# Altium footprint library IC - Other.PcbLib: 10 footprints
Each footprint in its own frame and in the unit in brackets; x right, y up, seen from the top. Pads: shape width x height; smd on the part's side, far side on the other; paste and mask are expansions set on the pad; w line width, h text height; cw(c..) or ccw(c..) is an arc to the next point about the centre after c.
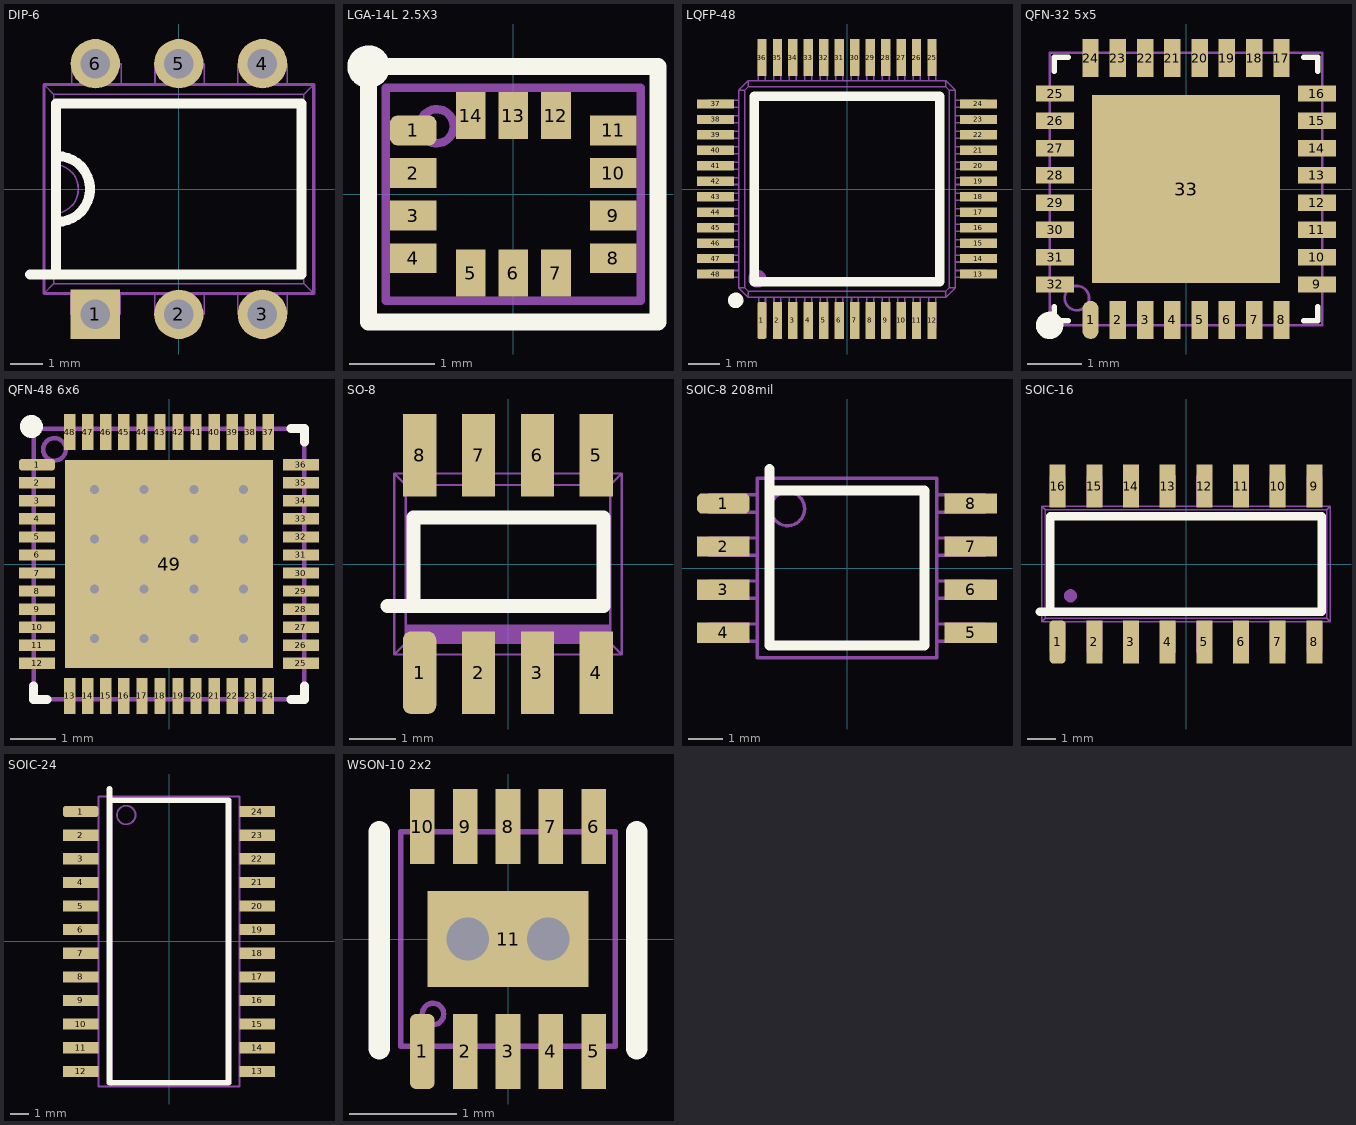
[diagram p0: the footprints below, top view; thin cyan lines are the x and y axes]

## DIP-6 [mm]
pads (6):
  rect 1.5x1.5 hole 0.9 mask+0.076: 1(-2.54,-3.81)
  round 1.5 hole 0.9 mask+0.076: 2(0,-3.81) 3(2.54,-3.81) 4(2.54,3.81) 5(0,3.81) 6(-2.54,3.81)
Top Overlay:
  lines w0.3: -4.53,-2.6 3.725,-2.6 3.725,2.6 -3.725,2.6 ; -3.73,-2.6 -3.73,2.6 ; -3.7,-1 ccw(c-3.7,0) -3.7,1
Mechanical 3:
  lines w0.05: -4.1,-3.175 -3.8,-2.875 3.8,-2.875 ; -4.1,3.175 -3.8,2.875 3.8,2.875 ; -3.805,-2.875 -3.805,-0.75 ccw(c-3.805,0) -3.805,0.75 -3.805,2.875 ; -3.28,-3.2 -3.28,-3.8 -1.78,-3.8 -1.78,-3.2 ; -3.255,3.2 -3.255,3.8 -1.755,3.8 -1.755,3.2 ; -0.73,-3.2 -0.73,-3.8 0.77,-3.8 0.77,-3.2 ; -0.725,3.2 -0.725,3.8 0.775,3.8 0.775,3.2 ; 1.79,-3.2 1.79,-3.8 3.29,-3.8 3.29,-3.2 ; 1.795,3.2 1.795,3.8 3.295,3.8 3.295,3.2 ; 4.1,-3.175 3.8,-2.875 ; 4.1,3.175 3.8,2.875 ; 3.8,-2.875 3.8,2.875
  lines w0.1: -4.1,-3.175 -4.1,3.175 4.1,3.175 4.1,-3.175 -4.1,-3.175
  text ".Designator" at -2.13,1.5 h0.8
  text ".Comment" at -2.13,-2.2 h0.8
3D body "DIP6.step": height 4.31, standoff -3.28, extent -3.98,-4 4.1,4

## LGA-14L 2.5X3 [mm]
pads (14):
  rrect50% 0.55x0.35 smd mask+0.06: 1(-1.175,0.75)
  rect 0.55x0.35 smd mask+0.06: 2(-1.175,0.25) 3(-1.175,-0.25) 4(-1.175,-0.75) 8(1.175,-0.75) 9(1.175,-0.25) 10(1.175,0.25) 11(1.175,0.75)
  rect 0.35x0.55 smd mask+0.06: 5(-0.5,-0.925) 6(0,-0.925) 7(0.5,-0.925) 12(0.5,0.925) 13(0,0.925) 14(-0.5,0.925)
Top Overlay:
  circle w0.25: c-1.7,1.5 r0.125
  lines w0.2: -1.7,-1.5 1.7,-1.5 1.7,1.5 -1.7,1.5 -1.7,-1.5
Mechanical 1:
  circle w0.1: c-0.9,0.8 r0.2
  lines w0.1: -1.5,-1.25 -1.5,1.25 1.5,1.25 1.5,-1.25 -1.5,-1.25
  text ".Comment" at -1.4,-0.5 h1
  text ".Designator" at -1.5,1.5 h1
3D body "LGA-14L 2.5x3.STEP": height 0.86, standoff -0.01, extent -1.5,-1.25 1.5,1.25

## LQFP-48 [mm]
pads (48):
  rrect50% 0.3x1.2 smd: 1(-2.75,-4.25)
  rect 0.3x1.2 smd: 2(-2.25,-4.25) 3(-1.75,-4.25) 4(-1.25,-4.25) 5(-0.75,-4.25) 6(-0.25,-4.25) 7(0.25,-4.25) 8(0.75,-4.25) 9(1.25,-4.25) 10(1.75,-4.25) 11(2.25,-4.25) 12(2.75,-4.25) 25(2.75,4.25) 26(2.25,4.25) 27(1.75,4.25) 28(1.25,4.25) 29(0.75,4.25) 30(0.25,4.25) 31(-0.25,4.25) 32(-0.75,4.25) 33(-1.25,4.25) 34(-1.75,4.25) 35(-2.25,4.25) 36(-2.75,4.25)
  rect 1.2x0.3 smd: 13(4.25,-2.75) 14(4.25,-2.25) 15(4.25,-1.75) 16(4.25,-1.25) 17(4.25,-0.75) 18(4.25,-0.25) 19(4.25,0.25) 20(4.25,0.75) 21(4.25,1.25) 22(4.25,1.75) 23(4.25,2.25) 24(4.25,2.75) 37(-4.25,2.75) 38(-4.25,2.25) 39(-4.25,1.75) 40(-4.25,1.25) 41(-4.25,0.75) 42(-4.25,0.25) 43(-4.25,-0.25) 44(-4.25,-0.75) 45(-4.25,-1.25) 46(-4.25,-1.75) 47(-4.25,-2.25) 48(-4.25,-2.75)
Top Overlay:
  circle w0.25: c-3.6,-3.6 r0.125
  lines w0.3: -3,-3 -3,3 3,3 3,-3 -3,-3
Mechanical 1:
  drawing of 222 lines, arcs and shapes, not listed
  text ".Comment" at -2.8,-2.5 h0.5
  text ".Designator" at -2.8,2 h1
3D body "User Library-LQFP48-2.STEP": height 1.62, standoff -0.01, extent -4.572,-4.572 4.572,4.572

## QFN-32 5x5 [mm]
pads (33):
  oval 0.3x0.7 smd mask+0.076: 1(-1.75,-2.4)
  rect 0.3x0.7 smd mask+0.076: 2(-1.25,-2.4) 3(-0.75,-2.4) 4(-0.25,-2.4) 5(0.25,-2.4) 6(0.75,-2.4) 7(1.25,-2.4) 8(1.75,-2.4) 17(1.75,2.4) 18(1.25,2.4) 19(0.75,2.4) 20(0.25,2.4) 21(-0.25,2.4) 22(-0.75,2.4) 23(-1.25,2.4) 24(-1.75,2.4)
  rect 0.7x0.3 smd mask+0.076: 9(2.4,-1.75) 10(2.4,-1.25) 11(2.4,-0.75) 12(2.4,-0.25) 13(2.4,0.25) 14(2.4,0.75) 15(2.4,1.25) 16(2.4,1.75) 25(-2.4,1.75) 26(-2.4,1.25) 27(-2.4,0.75) 28(-2.4,0.25) 29(-2.4,-0.25) 30(-2.4,-0.75) 31(-2.4,-1.25) 32(-2.4,-1.75)
  rect 3.45x3.45 smd mask+0.076: 33(0,0)
Top Overlay:
  circle w0.25: c-2.5,-2.5 r0.125
  lines w0.1: -2.413,-2.159 -2.413,-2.413 -2.159,-2.413 ; -2.413,2.159 -2.413,2.413 -2.159,2.413 ; 2.159,-2.413 2.413,-2.413 2.413,-2.159 ; 2.159,2.413 2.413,2.413 2.413,2.159
Mechanical 1:
  circle w0.05: c-2,-2 r0.224
  lines w0.05: -2.5,-2.5 -2.5,2.5 2.5,2.5 2.5,-2.5 -2.5,-2.5
  text ".Comment" at -1.75,-1.5 h0.8
  text ".Designator" at -2.3,3 h0.8
3D body "QFN-32 5x5.step": height 0.75, standoff 0, extent -2.51,-2.51 2.51,2.51

## QFN-48 6x6 [mm]
pads (49):
  rrect50% 0.8x0.25 smd: 1(-2.925,2.2)
  rect 0.8x0.25 smd: 2(-2.925,1.8) 3(-2.925,1.4) 4(-2.925,1) 5(-2.925,0.6) 6(-2.925,0.2) 7(-2.925,-0.2) 8(-2.925,-0.6) 9(-2.925,-1) 10(-2.925,-1.4) 11(-2.925,-1.8) 12(-2.925,-2.2) 25(2.925,-2.2) 26(2.925,-1.8) 27(2.925,-1.4) 28(2.925,-1) 29(2.925,-0.6) 30(2.925,-0.2) 31(2.925,0.2) 32(2.925,0.6) 33(2.925,1) 34(2.925,1.4) 35(2.925,1.8) 36(2.925,2.2)
  rect 0.25x0.8 smd: 13(-2.2,-2.925) 14(-1.8,-2.925) 15(-1.4,-2.925) 16(-1,-2.925) 17(-0.6,-2.925) 18(-0.2,-2.925) 19(0.2,-2.925) 20(0.6,-2.925) 21(1,-2.925) 22(1.4,-2.925) 23(1.8,-2.925) 24(2.2,-2.925) 37(2.2,2.925) 38(1.8,2.925) 39(1.4,2.925) 40(1,2.925) 41(0.6,2.925) 42(0.2,2.925) 43(-0.2,2.925) 44(-0.6,2.925) 45(-1,2.925) 46(-1.4,2.925) 47(-1.8,2.925) 48(-2.2,2.925)
  rect 4.6x4.6 smd: 49(0,0)
via 1.65,-1.65 diameter 0.5 hole 0.2
via 0.55,-1.65 diameter 0.5 hole 0.2
via -0.55,-1.65 diameter 0.5 hole 0.2
via -1.65,-1.65 diameter 0.5 hole 0.2
via 1.65,-0.55 diameter 0.5 hole 0.2
via 0.55,-0.55 diameter 0.5 hole 0.2
via -0.55,-0.55 diameter 0.5 hole 0.2
via -1.65,-0.55 diameter 0.5 hole 0.2
via 1.65,0.55 diameter 0.5 hole 0.2
via 0.55,0.55 diameter 0.5 hole 0.2
via -0.55,0.55 diameter 0.5 hole 0.2
via -1.65,0.55 diameter 0.5 hole 0.2
via 1.65,1.65 diameter 0.5 hole 0.2
via 0.55,1.65 diameter 0.5 hole 0.2
via -0.55,1.65 diameter 0.5 hole 0.2
via -1.65,1.65 diameter 0.5 hole 0.2
Top Overlay:
  circle w0.254: c-3.048,3.048 r0.127
  lines w0.2: -3,-2.7 -3,-3 -2.7,-3 ; 2.7,-3 3,-3 3,-2.7 ; 2.7,3 3,3 3,2.7
Mechanical 1:
  circle w0.1: c-2.54,2.54 r0.25
  lines w0.1: -3,-3 3,-3 3,3 -3,3 -3,-3
  text "'.Comment'" at -2.794,-2.794 h0.8
  text "'.Designator'" at 2.54,3.175 h0.8
3D body "User Library-QFN48.step": height 0.85, standoff -0.02, extent -3.034,-3.001 3.006,3.039

## SO-8 [mm]
pads (8):
  rrect50% 0.72x1.78 smd: 1(-1.905,-2.34)
  rect 0.72x1.78 smd: 2(-0.635,-2.34) 3(0.635,-2.34) 4(1.905,-2.34) 5(1.905,2.34) 6(0.635,2.34) 7(-0.635,2.34) 8(-1.905,2.34)
Top Overlay:
  lines w0.3: -2.591,-0.9 -2.032,-0.9 ; -2.032,-0.9 -2.032,1 2.057,1 2.057,-0.9 -2.032,-0.9
Mechanical 1:
  rectangle: -2.2,-1.7 2.2,-1.3
  lines w0.05: -2.075,-1.95 -2.075,-3 -1.725,-3 -1.725,-1.95 ; -2.075,1.975 -2.075,3.025 -1.725,3.025 -1.725,1.975 ; -2.025,-2.75 -1.775,-2.75 ; -2.025,2.75 -1.775,2.75 ; -0.8,1.95 -0.8,3 -0.45,3 -0.45,1.95 ; -0.775,-1.95 -0.775,-3 -0.425,-3 -0.425,-1.95 ; -0.75,2.75 -0.5,2.75 ; -0.725,-2.75 -0.475,-2.75 ; 0.45,1.95 0.45,3 0.8,3 0.8,1.95 ; 0.475,-1.95 0.475,-3 0.825,-3 0.825,-1.95 ; 0.5,2.75 0.75,2.75 ; 0.525,-2.75 0.775,-2.75 ; 1.75,-1.975 1.75,-3.025 2.1,-3.025 2.1,-1.975 ; 1.75,1.95 1.75,3 2.1,3 2.1,1.95 ; 1.8,-2.75 2.05,-2.75 ; 1.8,2.75 2.05,2.75 ; -2.45,-1.95 -2.2,-1.7 ; -2.45,-1.95 2.45,-1.95 ; -2.45,-1.95 -2.45,1.95 ; -2.45,1.95 -2.2,1.7 ; -2.45,1.95 2.45,1.95 ; -2.2,-1.7 2.2,-1.7 ; -2.2,-1.7 -2.2,1.7 ; -2.2,1.7 2.2,1.7 ; 2.2,-1.7 2.2,1.7 ; 2.2,-1.7 2.45,-1.95 ; 2.2,1.7 2.45,1.95 ; 2.45,-1.95 2.45,1.95
  text ".Designator" at -1.854,0.457 h0.6
  text ".Comment" at -1.829,-0.686 h0.6
3D body "SO-8.step": height 1.45, standoff 0, extent -2.438,-2.889 2.464,2.889

## SOIC-8 208mil [mm]
pads (8):
  rrect50% 1.55x0.6 smd: 1(-3.65,1.905)
  rect 1.55x0.6 smd: 2(-3.65,0.635) 3(-3.65,-0.635) 4(-3.65,-1.905) 5(3.65,-1.905) 6(3.65,-0.635) 7(3.65,0.635) 8(3.65,1.905)
Top Overlay:
  lines w0.3: -2.286,2.921 -2.286,2.286 ; -2.286,2.286 -2.286,-2.286 2.286,-2.286 2.286,2.286 -2.286,2.286
Mechanical 1:
  circle w0.1: c-1.75,1.75 r0.5
  lines w0.1: -3.556,-2.159 -3.556,-1.651 ; -3.556,-0.889 -3.556,-0.381 ; -3.556,0.381 -3.556,0.889 ; -3.556,1.651 -3.556,2.159 ; -2.667,-2.159 -4.064,-2.159 -4.064,-1.651 -2.65,-1.651 ; -2.667,-0.889 -4.064,-0.889 -4.064,-0.381 -2.65,-0.381 ; -2.667,0.381 -4.064,0.381 -4.064,0.889 -2.65,0.889 ; -2.667,1.651 -4.064,1.651 -4.064,2.159 -2.65,2.159 ; 2.65,-1.651 4.064,-1.651 4.064,-2.159 2.667,-2.159 ; 2.65,-0.381 4.064,-0.381 4.064,-0.889 2.667,-0.889 ; 2.65,0.889 4.064,0.889 4.064,0.381 2.667,0.381 ; 2.65,2.159 4.064,2.159 4.064,1.651 2.667,1.651 ; 3.556,-2.159 3.556,-1.651 ; 3.556,-0.889 3.556,-0.381 ; 3.556,0.381 3.556,0.889 ; 3.556,1.651 3.556,2.159 ; -2.65,-2.65 -2.65,2.65 2.65,2.65 2.65,-2.65 -2.65,-2.65
  text "'.Designator'" at -1.905,2.921 h1
  text "'.Comment'" at -2.286,-2.286 h1
3D body "SOIC-8b.step": height 1.96, standoff 0, extent -4,-2.65 4,2.65

## SOIC-16 [mm]
pads (16):
  rrect50% 0.55x1.5 smd: 1(-4.445,-2.7)
  rect 0.55x1.5 smd: 2(-3.175,-2.7) 3(-1.905,-2.7) 4(-0.635,-2.7) 5(0.635,-2.7) 6(1.905,-2.7) 7(3.175,-2.7) 8(4.445,-2.7) 9(4.445,2.7) 10(3.175,2.7) 11(1.905,2.7) 12(0.635,2.7) 13(-0.635,2.7) 14(-1.905,2.7) 15(-3.175,2.7) 16(-4.445,2.7)
Top Overlay:
  lines w0.3: -5.055,-1.651 -4.7,-1.651 ; -4.7,-1.651 -4.7,1.651 4.7,1.651 4.7,-1.651 -4.7,-1.651
Mechanical 1:
  circle w0.254: c-4,-1.1 r0.1
  lines w0.05: -4.875,-1.625 4.875,-1.625 ; -4.7,-2 -4.7,-3.05 -4.2,-3.05 -4.2,-2 ; -4.7,2 -4.7,3.05 -4.2,3.05 -4.2,2 ; -4.65,-2.4 -4.25,-2.4 ; -4.65,2.4 -4.25,2.4 ; -3.425,-2 -3.425,-3.05 -2.925,-3.05 -2.925,-2 ; -3.425,2 -3.425,3.05 -2.925,3.05 -2.925,2 ; -3.375,-2.4 -2.975,-2.4 ; -3.375,2.4 -2.975,2.4 ; -2.15,-2 -2.15,-3.05 -1.65,-3.05 -1.65,-2 ; -2.15,2 -2.15,3.05 -1.65,3.05 -1.65,2 ; -2.1,-2.4 -1.7,-2.4 ; -2.1,2.4 -1.7,2.4 ; -0.875,-2 -0.875,-3.05 -0.375,-3.05 -0.375,-2 ; -0.875,2 -0.875,3.05 -0.375,3.05 -0.375,2 ; -0.825,-2.4 -0.425,-2.4 ; -0.825,2.4 -0.425,2.4 ; 0.375,-2 0.375,-3.05 0.875,-3.05 0.875,-2 ; 0.375,2 0.375,3.05 0.875,3.05 0.875,2 ; 0.425,-2.4 0.825,-2.4 ; 0.425,2.4 0.825,2.4 ; 1.65,-2 1.65,-3.05 2.15,-3.05 2.15,-2 ; 1.65,2 1.65,3.05 2.15,3.05 2.15,2 ; 1.7,-2.4 2.1,-2.4 ; 1.7,2.4 2.1,2.4 ; 2.925,-2 2.925,-3.05 3.425,-3.05 3.425,-2 ; 2.925,2 2.925,3.05 3.425,3.05 3.425,2 ; 2.975,-2.4 3.375,-2.4 ; 2.975,2.4 3.375,2.4 ; 4.2,-2 4.2,-3.05 4.7,-3.05 4.7,-2 ; 4.2,2 4.2,3.05 4.7,3.05 4.7,2 ; 4.25,-2.4 4.65,-2.4 ; 4.25,2.4 4.65,2.4 ; -5,-2 -5,2 ; -5,-2 5,-2 ; -5,-2 -4.875,-1.875 ; -5,2 5,2 ; -5,2 -4.875,1.875 ; -4.875,-1.875 4.875,-1.875 ; -4.875,-1.875 -4.875,1.875 ; -4.875,1.875 4.875,1.875 ; 4.875,-1.875 5,-2 ; 4.875,-1.875 4.875,1.875 ; 4.875,-1.875 4.875,1.875 ; 4.875,1.875 5,2 ; 5,-2 5,2
  text ".Comment" at -3.4,-1.3 h0.8
  text ".Designator" at -4.2,0.8 h0.8
3D body "SOIC-16.step": height 1.75, standoff 0, extent -5,-3 5,3

## SOIC-24 [mm] "SOIC-24"
height 2.65
pads (24):
  rrect50% 1.9x0.6 smd: 1(-4.75,6.985)
  rect 1.9x0.6 smd: 2(-4.75,5.715) 3(-4.75,4.445) 4(-4.75,3.175) 5(-4.75,1.905) 6(-4.75,0.635) 7(-4.75,-0.635) 8(-4.75,-1.905) 9(-4.75,-3.175) 10(-4.75,-4.445) 11(-4.75,-5.715) 12(-4.75,-6.985) 13(4.75,-6.985) 14(4.75,-5.715) 15(4.75,-4.445) 16(4.75,-3.175) 17(4.75,-1.905) 18(4.75,-0.635) 19(4.75,0.635) 20(4.75,1.905) 21(4.75,3.175) 22(4.75,4.445) 23(4.75,5.715) 24(4.75,6.985)
Top Overlay:
  lines w0.3: -3.2,8.2 -3.2,7.6 ; -3.2,7.6 -3.2,-7.6 3.2,-7.6 3.2,7.6 -3.2,7.6
Mechanical 1:
  circle w0.1: c-2.3,6.8 r0.5
  lines w0.1: -4.5,-7.07 -4.5,-6.87 ; -4.5,-5.8 -4.5,-5.6 ; -4.5,-4.53 -4.5,-4.33 ; -4.5,-3.26 -4.5,-3.06 ; -4.5,-1.99 -4.5,-1.79 ; -4.5,-0.72 -4.5,-0.52 ; -4.5,0.55 -4.5,0.75 ; -4.5,1.82 -4.5,2.02 ; -4.5,3.09 -4.5,3.29 ; -4.5,4.36 -4.5,4.56 ; -4.5,5.63 -4.5,5.83 ; -4.5,6.9 -4.5,7.1 ; -3.8,-7.17 -5.1,-7.17 -5.1,-6.77 -3.8,-6.77 ; -3.8,-5.9 -5.1,-5.9 -5.1,-5.5 -3.8,-5.5 ; -3.8,-4.63 -5.1,-4.63 -5.1,-4.23 -3.8,-4.23 ; -3.8,-3.36 -5.1,-3.36 -5.1,-2.96 -3.8,-2.96 ; -3.8,-2.09 -5.1,-2.09 -5.1,-1.69 -3.8,-1.69 ; -3.8,-0.82 -5.1,-0.82 -5.1,-0.42 -3.8,-0.42 ; -3.8,0.45 -5.1,0.45 -5.1,0.85 -3.8,0.85 ; -3.8,1.72 -5.1,1.72 -5.1,2.12 -3.8,2.12 ; -3.8,2.99 -5.1,2.99 -5.1,3.39 -3.8,3.39 ; -3.8,4.26 -5.1,4.26 -5.1,4.66 -3.8,4.66 ; -3.8,5.53 -5.1,5.53 -5.1,5.93 -3.8,5.93 ; -3.8,6.8 -5.1,6.8 -5.1,7.2 -3.8,7.2 ; -3.1,-7.8 -3.1,7.8 ; 3.8,-7.17 5.1,-7.17 5.1,-6.77 3.8,-6.77 ; 3.8,-5.9 5.1,-5.9 5.1,-5.5 3.8,-5.5 ; 3.8,-4.63 5.1,-4.63 5.1,-4.23 3.8,-4.23 ; 3.8,-3.36 5.1,-3.36 5.1,-2.96 3.8,-2.96 ; 3.8,-2.09 5.1,-2.09 5.1,-1.69 3.8,-1.69 ; 3.8,-0.82 5.1,-0.82 5.1,-0.42 3.8,-0.42 ; 3.8,0.45 5.1,0.45 5.1,0.85 3.8,0.85 ; 3.8,1.72 5.1,1.72 5.1,2.12 3.8,2.12 ; 3.8,2.99 5.1,2.99 5.1,3.39 3.8,3.39 ; 3.8,4.26 5.1,4.26 5.1,4.66 3.8,4.66 ; 3.8,5.53 5.1,5.53 5.1,5.93 3.8,5.93 ; 3.8,6.8 5.1,6.8 5.1,7.2 3.8,7.2 ; 4.5,-7.07 4.5,-6.87 ; 4.5,-5.8 4.5,-5.6 ; 4.5,-4.53 4.5,-4.33 ; 4.5,-3.26 4.5,-3.06 ; 4.5,-1.99 4.5,-1.79 ; 4.5,-0.72 4.5,-0.52 ; 4.5,0.55 4.5,0.75 ; 4.5,1.82 4.5,2.02 ; 4.5,3.09 4.5,3.29 ; 4.5,4.36 4.5,4.56 ; 4.5,5.63 4.5,5.83 ; 4.5,6.9 4.5,7.1 ; -3.8,-7.8 -3.8,7.8 3.8,7.8 3.8,-7.8 -3.8,-7.8
  text "'.Comment'" at 2.8,-7.2 h2
  text "'.Designator'" at -3.8,8.4 h2
3D body "SOIC-24.step": height 2.65, standoff 0, extent -5.15,-7.8 5.15,7.8

## WSON-10 2x2 [mm]
pads (11):
  rrect50% 0.23x0.7 smd: 1(-0.8,-1.05)
  rect 0.23x0.7 smd paste+0: 2(-0.4,-1.05)
  rect 0.23x0.7 smd: 3(0,-1.05) 4(0.4,-1.05) 5(0.8,-1.05) 6(0.8,1.05) 7(0.4,1.05) 8(0,1.05) 9(-0.4,1.05) 10(-0.8,1.05)
  rect 1.5x0.9 smd paste-3: 11(0,0)
via -0.375,0 diameter 0.4 hole 0.4
via 0.375,0 diameter 0.4 hole 0.4
Top Overlay:
  lines w0.2: -1.2,-1.025 -1.2,1 ; 1.2,-1.025 1.2,1
Mechanical 1:
  circle w0.05: c-0.7,-0.7 r0.1
  lines w0.05: -1,-1 -1,1 1,1 1,-1 -1,-1
  text "'.Comment'" at -0.9,-0.5 h0.4
  text "'.Designator'" at 1,1 h0.4
3D body "WSON-10 2x2.STEP": height 0.73, standoff -0.02, extent -1,-1.02 1,1.02